# Altium footprint library WISP_AD10.PcbLib: 84 footprints (part 3 of 6)
Each footprint in its own frame and in the unit in brackets; x right, y up, seen from the top. Pads: shape width x height; smd on the part's side, far side on the other; paste and mask are expansions set on the pad; w line width, h text height; cw(c..) or ccw(c..) is an arc to the next point about the centre after c.
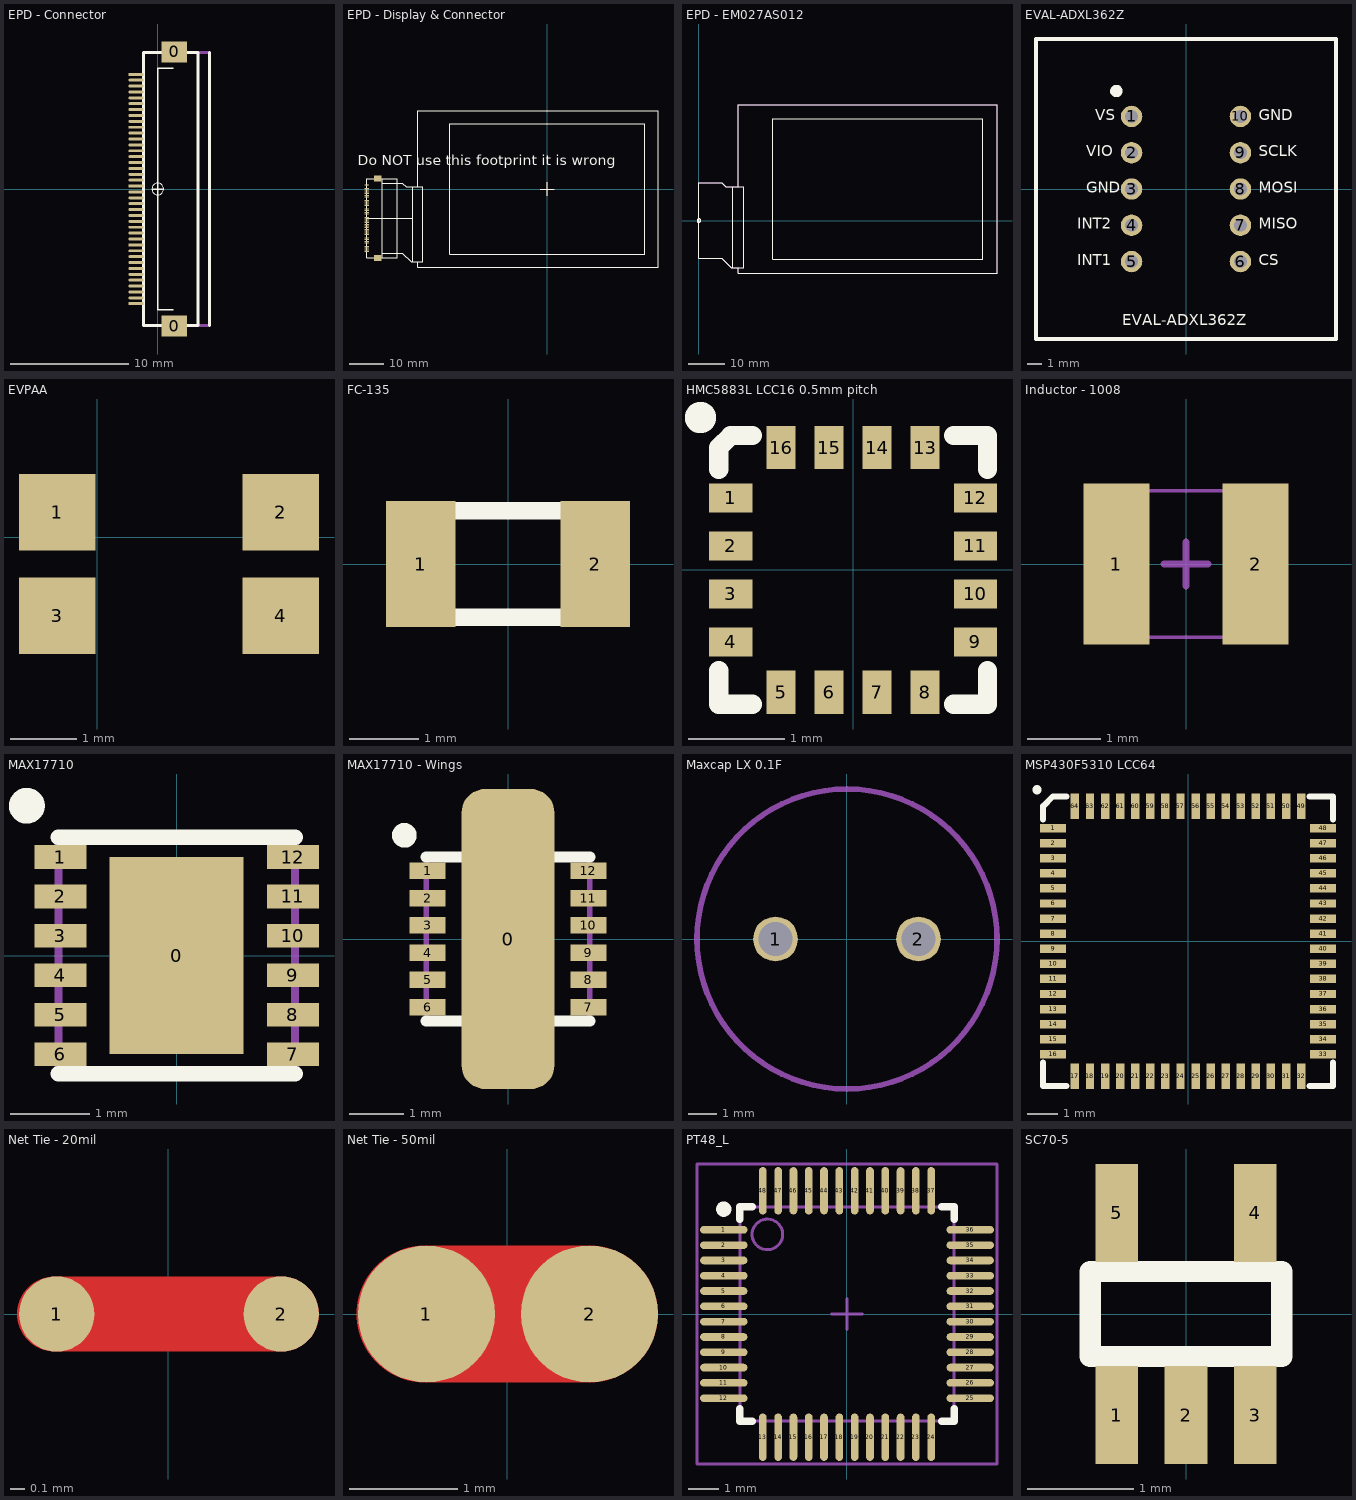
[diagram p2: the footprints below, top view; thin cyan lines are the x and y axes]

## EPD - Connector [mm] "CONN FPC/FFC 40POS .5MM HORZ SMD, ZIF"
height 2.4
pads (42):
  rect 2.2x1.8 smd: 0(1.4,-11.65) 0(1.4,11.65)
  rect 1.3x0.25 smd: 1(-1.85,9.75) 10(-1.85,5.25) 20(-1.85,0.25) 30(-1.85,-4.75) 40(-1.85,-9.75)
  oval 1.3x0.25 smd: 2(-1.85,9.25) 3(-1.85,8.75) 4(-1.85,8.25) 5(-1.85,7.75) 6(-1.85,7.25) 7(-1.85,6.75) 8(-1.85,6.25) 9(-1.85,5.75) 11(-1.85,4.75) 12(-1.85,4.25) 13(-1.85,3.75) 14(-1.85,3.25) 15(-1.85,2.75) 16(-1.85,2.25) 17(-1.85,1.75) 18(-1.85,1.25) 19(-1.85,0.75) 21(-1.85,-0.25) 22(-1.85,-0.75) 23(-1.85,-1.25) 24(-1.85,-1.75) 25(-1.85,-2.25) 26(-1.85,-2.75) 27(-1.85,-3.25) 28(-1.85,-3.75) 29(-1.85,-4.25) 31(-1.85,-5.25) 32(-1.85,-5.75) 33(-1.85,-6.25) 34(-1.85,-6.75) 35(-1.85,-7.25) 36(-1.85,-7.75) 37(-1.85,-8.25) 38(-1.85,-8.75) 39(-1.85,-9.25)
Top Overlay:
  circle w0.1: c0,0 r0.5
  lines w0.127: -0.5,0 0.5,0 ; 1.3,-10.25 0,-10.25 0,10.25 1.3,10.25
  lines w0.254: 4.4,-11.6 4.4,11.6 ; -1.2,-11.6 -1.2,0 -1.2,11.6 3.4,11.6 3.4,-11.6 -1.2,-11.6
Mechanical 13:
  circle w0.127: c-1.85,9.75 r0.064
  lines w0.254: -1.2,-11.6 4.4,-11.6 4.4,11.6 -1.2,11.6 -1.2,-11.6
  text ".Designator" at 0.55,10.25 h1.52
3D body: height 2, standoff 0, extent -1.2,-11.6 4.4,11.6

## EPD - Display & Connector [mm] "2.7'' TFT EPD Panel, with mating for STARCONN 089H40 Conncetor"
height 1.3
pads (42):
  rect 2.2x1.8 smd: 0(-49.7,-20.25) 0(-49.7,3.05)
  rect 1.3x0.25 smd: 1(-52.95,1.15) 10(-52.95,-3.35) 20(-52.95,-8.35) 30(-52.95,-13.35) 40(-52.95,-18.35)
  oval 1.3x0.25 smd: 2(-52.95,0.65) 3(-52.95,0.15) 4(-52.95,-0.35) 5(-52.95,-0.85) 6(-52.95,-1.35) 7(-52.95,-1.85) 8(-52.95,-2.35) 9(-52.95,-2.85) 11(-52.95,-3.85) 12(-52.95,-4.35) 13(-52.95,-4.85) 14(-52.95,-5.35) 15(-52.95,-5.85) 16(-52.95,-6.35) 17(-52.95,-6.85) 18(-52.95,-7.35) 19(-52.95,-7.85) 21(-52.95,-8.85) 22(-52.95,-9.35) 23(-52.95,-9.85) 24(-52.95,-10.35) 25(-52.95,-10.85) 26(-52.95,-11.35) 27(-52.95,-11.85) 28(-52.95,-12.35) 29(-52.95,-12.85) 31(-52.95,-13.85) 32(-52.95,-14.35) 33(-52.95,-14.85) 34(-52.95,-15.35) 35(-52.95,-15.85) 36(-52.95,-16.35) 37(-52.95,-16.85) 38(-52.95,-17.35) 39(-52.95,-17.85)
Top Overlay:
  lines w0.1: -52.95,-8.6 -48.46,-8.6 -39.46,-8.6
  lines w0.254: -48.45,-20.2 -48.45,3 ; -37.96,0.6 -37.96,22.9 32.46,22.9 32.46,-22.9 -37.96,-22.9 -37.96,-21.4 -39.46,-21.4 ; -2,0 0,0 ; 0,-2 0,0 ; 0,2 0,0 ; 2,0 0,0 ; -39.46,-21.4 -39.91,-21.4 -42.46,-18.85 -48.46,-18.85 -48.46,1.65 -42.46,1.65 -41.41,0.6 -39.46,0.6 ; -39.46,-21.4 -36.46,-21.4 -36.46,0.6 -39.46,0.6 ; -39.46,-21.4 -39.46,0.6 ; -52.95,-20.2 -52.95,-8.6 -52.95,3 -44.05,3 -44.05,-20.2 -52.95,-20.2 ; -28.614,-19.096 -28.614,19.096 28.614,19.096 28.614,-19.096 -28.614,-19.096
  text "Do NOT use this footprint it is wrong" at -55.5,7 h3.05
Mechanical 13:
  circle w0.1: c-52.95,1.143 r0.118
  text ".Designator" at -51.435,1.27 h0.76
3D body: height 1.3, standoff 0, extent -37.96,-22.9 32.46,22.9
3D body: height 2, standoff 0, extent -52.95,-20.2 -44.05,3

## EPD - EM027AS012 [mm] "2.7'' TFT EPD Panel, with mating for STARCONN 089H40 Conncetor"
height 1.3
Top Overlay:
  circle w0.1: c0,0 r0.5
  lines w0.1: -0.49,0 0.5,0 ; 0,-0.49 0,0.5
  lines w0.254: 0,-0.762 0,-0.5 ; 0,-0.754 0,-10.25 6.254,-10.25 8.804,-12.8 9.254,-12.8 ; 0,0.508 0,0.754 0,10.25 6.254,10.25 7.304,9.2 9.254,9.2 ; 10.754,9.2 10.754,31.5 81.174,31.5 81.174,-14.3 10.754,-14.3 10.754,-12.8 9.254,-12.8 ; 9.254,-12.8 12.254,-12.8 12.254,9.2 9.254,9.2 ; 9.254,-12.8 9.254,9.2 ; 20.1,-10.496 20.1,27.696 77.328,27.696 77.328,-10.496 20.1,-10.496
Mechanical 13:
  lines w0.254: 0,-10.25 6.254,-10.25 8.804,-12.8 10.754,-12.8 10.754,-14.3 81.174,-14.3 81.174,31.5 10.754,31.5 10.754,9.2 7.304,9.2 6.254,10.25 0,10.25 0,-10.25
  text ".Designator" at 74.754,25 h1.52
3D body: height 1.1, standoff 0, extent 10.754,-14.3 81.174,31.5

## EVAL-ADXL362Z [mm]
pads (10):
  round 1.5 hole 0.9: 1(-3.81,5.08) 2(-3.81,2.54) 3(-3.81,0) 4(-3.81,-2.54) 5(-3.81,-5.08) 6(3.81,-5.08) 7(3.81,-2.54) 8(3.81,0) 9(3.81,2.54) 10(3.81,5.08)
Top Overlay:
  circle w0.508: c-4.879,6.858 r0.18
  lines w0.254: -10.5,-10.5 -10.5,10.5 10.5,10.5 10.5,-10.5 -10.5,-10.5
  text "GND" at 5.08,4.826 h0.76
  text "SCLK" at 5.08,2.286 h0.76
  text "MOSI" at 5.08,-0.254 h0.76
  text "MISO" at 5.08,-2.794 h0.76
  text "CS" at 5.08,-5.334 h0.76
  text "INT1" at -7.62,-5.334 h0.76
  text "INT2" at -7.62,-2.794 h0.76
  text "GND" at -6.985,-0.254 h0.76
  text "VIO" at -6.985,2.286 h0.76
  text "VS" at -6.35,4.826 h0.76
  text "EVAL-ADXL362Z" at -4.445,-9.525 h0.76

## EVPAA [mm] "3.5 mm x 2.9 mm SND light touch Switch tactile"
pads (4):
  rect 1.15x1.15 smd: 1(-0.6,0.375) 2(2.75,0.375) 3(-0.6,-1.175) 4(2.75,-1.175)
3D body: height 1.4, standoff 0, extent -0.5,-2.1 2.4,1.4
3D body: height 1.6, standoff 0, extent 0.2,-1.45 1.7,0.75

## FC-135 [mm] "FC-135   crystal - epson eletronics"
height 0.8
pads (2):
  rect 1x1.8 smd: 1(-1.25,0) 2(1.25,0)
Top Overlay:
  lines w0.254: -0.762,-0.762 0.762,-0.762 ; -0.762,0.762 0.762,0.762

## HMC5883L LCC16 0.5mm pitch [mm]
pads (16):
  rect 0.45x0.3 smd: 1(-1.275,0.75) 2(-1.275,0.25) 3(-1.275,-0.25) 4(-1.275,-0.75) 9(1.275,-0.75) 10(1.275,-0.25) 11(1.275,0.25) 12(1.275,0.75)
  rect 0.3x0.45 smd: 5(-0.75,-1.275) 6(-0.25,-1.275) 7(0.25,-1.275) 8(0.75,-1.275) 13(0.75,1.275) 14(0.25,1.275) 15(-0.25,1.275) 16(-0.75,1.275)
Top Overlay:
  circle w0.254: c-1.59,1.588 r0.036
  lines w0.2: -1.4,-1.05 -1.4,-1.4 -1.05,-1.4 ; -1.4,1.05 -1.4,1.275 -1.275,1.4 -1.05,1.4 ; 1.05,-1.4 1.4,-1.4 1.4,-1.05 ; 1.05,1.4 1.4,1.4 1.4,1.05

## Inductor - 1008 [mm] "Murata - LQM2HPN1R5MG0L"
height 0.9
pads (2):
  rect 0.9x2.2 smd: 1(-0.95,0) 2(0.95,0)
Mechanical 13:
  lines w0.051: -1.25,-1 1.25,-1 1.25,1 -1.25,1 -1.25,-1
  text ".Designator" at -1.016,-0.381 h0.76
Mechanical 15:
  lines w0.1: -0.3,0 0.3,0 ; 0,-0.3 0,0.3
3D body: height 1.1, standoff 0, extent -1.25,-1 1.25,1

## MAX17710 [mm] "12-UFDFN Exposed Pad"
height 0.5
pads (13):
  rect 1.7x2.5 smd: 0(0,0)
  rect 0.66x0.3 smd: 1(-1.475,1.25) 2(-1.475,0.75) 3(-1.475,0.25) 4(-1.475,-0.25) 5(-1.475,-0.75) 6(-1.475,-1.25) 7(1.475,-1.25) 8(1.475,-0.75) 9(1.475,-0.25) 10(1.475,0.25) 11(1.475,0.75) 12(1.475,1.25)
Top Overlay:
  circle w0.254: c-1.9,1.9 r0.1
  lines w0.2: -1.5,-1.5 1.5,-1.5 ; -1.5,1.5 1.5,1.5
Mechanical 13:
  lines w0.1: -1.5,-1.5 -1.5,1.5 1.5,1.5 1.5,-1.5 -1.5,-1.5
3D body: height 0.5, standoff 0, extent -1.5,-1.5 1.5,1.5

## MAX17710 - Wings [mm] "12-UFDFN Exposed Pad -  with \"Wings\" for easy to desoldering"
height 0.5
pads (13):
  rrect50% 1.7x5.5 smd: 0(0,0)
  rect 0.66x0.3 smd: 1(-1.475,1.25) 2(-1.475,0.75) 3(-1.475,0.25) 4(-1.475,-0.25) 5(-1.475,-0.75) 6(-1.475,-1.25) 7(1.475,-1.25) 8(1.475,-0.75) 9(1.475,-0.25) 10(1.475,0.25) 11(1.475,0.75) 12(1.475,1.25)
Top Overlay:
  circle w0.254: c-1.9,1.9 r0.1
  lines w0.2: -1.5,-1.5 1.5,-1.5 ; -1.5,1.5 1.5,1.5
Mechanical 13:
  circle w0.1: c-1.475,1.25 r0.081
  lines w0.1: -1.5,-1.5 -1.5,1.5 1.5,1.5 1.5,-1.5 -1.5,-1.5
  text ".Designator" at -0.381,1.143 h0.76
3D body: height 0.5, standoff 0, extent -1.5,-1.5 1.5,1.5

## Maxcap LX 0.1F [mm] "Maxcap LX Series, 0.1F, Diameter  11mm, Leads 5.1mm"
height 6.5
pads (2):
  round 1.6 hole 1.2: 1(-2.55,0) 2(2.55,0)
Mechanical 1:
  circle w0.2: c0,0 r5.35

## MSP430F5310 LCC64 [mm]
pads (64):
  rect 0.85x0.28 smd: 1(-4.475,3.75) 2(-4.475,3.25) 3(-4.475,2.75) 4(-4.475,2.25) 5(-4.475,1.75) 6(-4.475,1.25) 7(-4.475,0.75) 8(-4.475,0.25) 9(-4.475,-0.25) 10(-4.475,-0.75) 11(-4.475,-1.25) 12(-4.475,-1.75) 13(-4.475,-2.25) 14(-4.475,-2.75) 15(-4.475,-3.25) 16(-4.475,-3.75) 33(4.475,-3.75) 34(4.475,-3.25) 35(4.475,-2.75) 36(4.475,-2.25) 37(4.475,-1.75) 38(4.475,-1.25) 39(4.475,-0.75) 40(4.475,-0.25) 41(4.475,0.25) 42(4.475,0.75) 43(4.475,1.25) 44(4.475,1.75) 45(4.475,2.25) 46(4.475,2.75) 47(4.475,3.25) 48(4.475,3.75)
  rect 0.28x0.85 smd: 17(-3.75,-4.475) 18(-3.25,-4.475) 19(-2.75,-4.475) 20(-2.25,-4.475) 21(-1.75,-4.475) 22(-1.25,-4.475) 23(-0.75,-4.475) 24(-0.25,-4.475) 25(0.25,-4.475) 26(0.75,-4.475) 27(1.25,-4.475) 28(1.75,-4.475) 29(2.25,-4.475) 30(2.75,-4.475) 31(3.25,-4.475) 32(3.75,-4.475) 49(3.75,4.475) 50(3.25,4.475) 51(2.75,4.475) 52(2.25,4.475) 53(1.75,4.475) 54(1.25,4.475) 55(0.75,4.475) 56(0.25,4.475) 57(-0.25,4.475) 58(-0.75,4.475) 59(-1.25,4.475) 60(-1.75,4.475) 61(-2.25,4.475) 62(-2.75,4.475) 63(-3.25,4.475) 64(-3.75,4.475)
Top Overlay:
  circle w0.254: c-5.008,5.02 r0.025
  lines w0.2: -4.8,-4.03 -4.8,-4.8 -4.03,-4.8 ; -4.8,4.03 -4.8,4.475 -4.475,4.8 -4.03,4.8 ; 4.03,-4.8 4.8,-4.8 4.8,-4.03 ; 4.03,4.8 4.8,4.8 4.8,4.03
3D body: height 1, standoff 0, extent -4.375,-4.35 4.425,4.35

## Net Tie - 20mil [mil] "Net Tie is used to connect two differnt nets together"
pads (2):
  round 20 smd: 1(-29.53,0) 2(30,0)
Top Layer:
  lines w20: -30,0 30,0

## Net Tie - 50mil [mm] "Net Tie is used to connect two differnt nets together"
pads (2):
  round 1.27 smd: 1(-0.75,0) 2(0.762,0)
Top Layer:
  lines w1.27: -0.762,0 0.762,0

## PT48_L [mm] "Thin QFP, 48-Leads, Body 7x7mm, Pitch 0.5mm, IPC High Density"
height 1.6
pads (48):
  oval 1.55x0.25 smd: 1(-4.025,2.75) 2(-4.025,2.25) 3(-4.025,1.75) 4(-4.025,1.25) 5(-4.025,0.75) 6(-4.025,0.25) 7(-4.025,-0.25) 8(-4.025,-0.75) 9(-4.025,-1.25) 10(-4.025,-1.75) 11(-4.025,-2.25) 12(-4.025,-2.75) 25(4.025,-2.75) 26(4.025,-2.25) 27(4.025,-1.75) 28(4.025,-1.25) 29(4.025,-0.75) 30(4.025,-0.25) 31(4.025,0.25) 32(4.025,0.75) 33(4.025,1.25) 34(4.025,1.75) 35(4.025,2.25) 36(4.025,2.75)
  oval 0.25x1.55 smd: 13(-2.75,-4.025) 14(-2.25,-4.025) 15(-1.75,-4.025) 16(-1.25,-4.025) 17(-0.75,-4.025) 18(-0.25,-4.025) 19(0.25,-4.025) 20(0.75,-4.025) 21(1.25,-4.025) 22(1.75,-4.025) 23(2.25,-4.025) 24(2.75,-4.025) 37(2.75,4.025) 38(2.25,4.025) 39(1.75,4.025) 40(1.25,4.025) 41(0.75,4.025) 42(0.25,4.025) 43(-0.25,4.025) 44(-0.75,4.025) 45(-1.25,4.025) 46(-1.75,4.025) 47(-2.25,4.025) 48(-2.75,4.025)
Top Overlay:
  circle w0.25: c-4.025,3.425 r0.125
  lines w0.254: -3.5,-3.1 -3.5,-3.5 -3.1,-3.5 ; -3.5,3.1 -3.5,3.5 -3.1,3.5 ; 3.1,-3.5 3.5,-3.5 3.5,-3.1 ; 3.1,3.5 3.5,3.5 3.5,3.1
Mechanical 13:
  circle w0.1: c-2.6,2.6 r0.5
  lines w0.1: -3.5,-3.5 3.5,-3.5 3.5,3.5 -3.5,3.5 -3.5,-3.5
Mechanical 15:
  lines w0.1: -0.5,0 0.5,0 ; 0,-0.5 0,0.5 ; -4.9,-4.9 4.9,-4.9 4.9,4.9 -4.9,4.9 -4.9,-4.9
3D body: height 1.6, standoff 0, extent -3.5,-3.5 3.5,3.5

## SC70-5 [mm] "SC70-5"
height 1.1
pads (5):
  rect 0.4x0.92 smd: 1(-0.65,-0.95) 2(0,-0.95) 3(0.65,-0.95) 4(0.65,0.95) 5(-0.65,0.95)
Top Overlay:
  lines w0.2: -0.9,-0.4 0.9,-0.4 0.9,0.4 -0.9,0.4 -0.9,-0.4
Mechanical 13:
  circle w0.1: c-0.65,-0.95 r0.036
  lines w0.1: -0.9,-0.4 -0.9,0.4 0.9,0.4 0.9,-0.4 -0.9,-0.4
  text ".Designator" at -0.686,-0.152 h0.38
3D body: height 1.1, standoff 0, extent -0.9,-0.4 0.9,0.4